# Altium schematic symbol library LM285.Schlib: 1 symbol
Pins are listed as number, name and electrical type; pins without a type are passive.

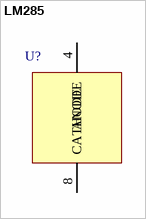
[diagram p0: symbol LM285]

## LM285
designator U?  (value not drawn)
Micropower Voltage Reference, includes LM385
pins: 1 NC hidden, 2 NC hidden, 3 NC hidden, 4 ANODE, 5 NC hidden, 6 NC hidden, 7 NC hidden, 8 CATHODE